# EAGLE library part MAC8606 (library seb)
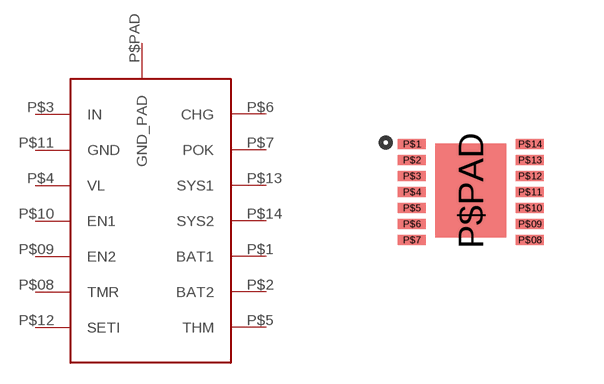
[diagram p2: symbol with the pads of 14TDFN; footprint 14TDFN]

Designator prefix IC

## MAC8606  [14TDFN]
P$1  BAT1
P$2  BAT2
P$3  IN
P$4  VL
P$5  THM
P$6  CHG
P$7  POK
P$08  TMR
P$09  EN2
P$10  EN1
P$11  GND
P$12  SETI
P$13  SYS1
P$14  SYS2
P$PAD  GND_PAD

## Footprint 14TDFN (pad centres in mm)
smd 0.7 x 0.25: P$1 -1.35,1.05; P$2 -1.35,0.65; P$3 -1.35,0.25; P$4 -1.35,-0.15; P$5 -1.35,-0.55; P$6 -1.35,-0.95; P$7 -1.35,-1.35; P$08 1.6,-1.35; P$09 1.6,-0.95; P$10 1.6,-0.55; P$11 1.6,-0.15; P$12 1.6,0.25; P$13 1.6,0.65; P$14 1.6,1.05
smd 1.78 x 2.35: P$PAD 0.12,-0.12